# Altium footprint library UHF-pcblib.PcbLib: 7 footprints
Each footprint in its own frame and in the unit in brackets; x right, y up, seen from the top. Pads: shape width x height; smd on the part's side, far side on the other; paste and mask are expansions set on the pad; w line width, h text height; cw(c..) or ccw(c..) is an arc to the next point about the centre after c.
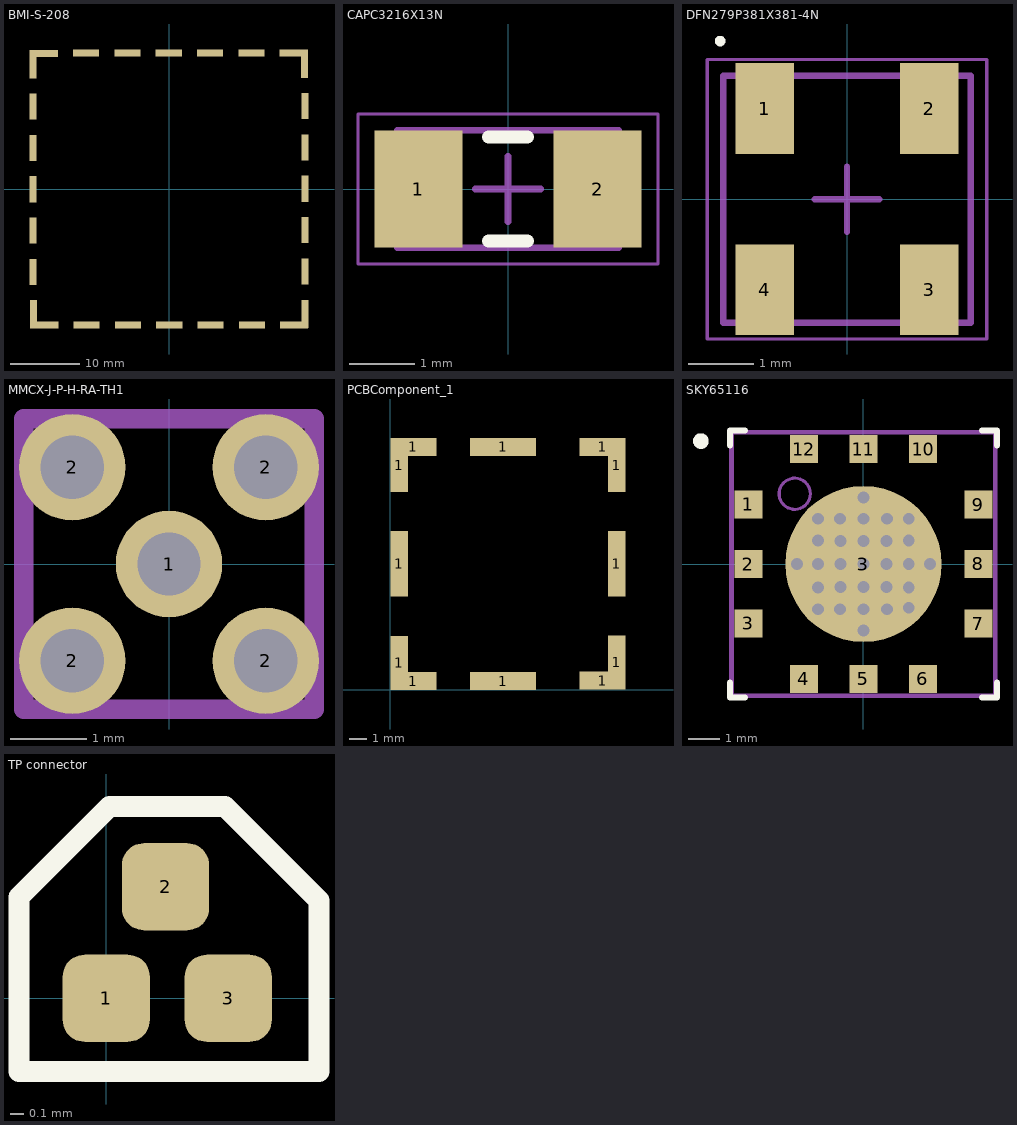
[diagram p0: the footprints below, top view; thin cyan lines are the x and y axes]

## BMI-S-208 [mm]
pads (28):
  rect 1x3.8 smd: 1(-19.775,-12) 1(-19.775,-6) 1(-19.775,0) 1(-19.775,6) 1(-19.775,12) 1(19.7,-11.925) 1(19.7,-5.925) 1(19.7,0.075) 1(19.7,6.075) 1(19.7,12.075)
  rect 1x4.1 smd: 1(-19.775,18.15) 1(-19.7,-18.1) 1(19.625,18.175) 1(19.7,-18.1)
  rect 4.1x1 smd: 1(-18.175,19.7) 1(-18.15,-19.7) 1(18.075,19.775) 1(18.1,-19.7)
  rect 3.8x1 smd: 1(-12.075,19.775) 1(-12,-19.7) 1(-6.075,19.775) 1(-6,-19.7) 1(-0.075,19.775) 1(0,-19.7) 1(5.925,19.775) 1(6,-19.7) 1(11.925,19.775) 1(12,-19.7)
3D body: height 7, standoff 5.5, extent -20.1,-20.1 20.1,20.1
3D body: height 7, standoff 0, extent -20.1,-20.1 20.1,-18
3D body: height 7, standoff 0, extent 18,-20.1 20.1,20.1
3D body: height 7, standoff 0, extent -20.1,18 20.1,20.1
3D body: height 7, standoff 0, extent -20.1,-20.1 -18,20.1

## CAPC3216X13N [mm] "Chip Capacitor, 2-Leads, Body 3.20x1.60mm, IPC Medium Density"
height 1.3
pads (2):
  rect 1.35x1.8 smd: 1(-1.375,0) 2(1.375,0)
Top Overlay:
  lines w0.2: -0.3,-0.8 0.3,-0.8 ; -0.3,0.8 0.3,0.8
Mechanical 13:
  lines w0.1: -1.7,-0.9 1.7,-0.9 1.7,0.9 -1.7,0.9 -1.7,-0.9
Mechanical 15:
  lines w0.05: -2.3,-1.15 2.3,-1.15 2.3,1.15 -2.3,1.15 -2.3,-1.15
  lines w0.1: -0.5,0 0.5,0 ; 0,-0.5 0,0.5
3D body: height 1.3, standoff 0, extent 1.2,-0.9 1.7,0.9
3D body: height 1.3, standoff 0, extent -1.7,-0.9 -1.2,0.9
3D body: height 1.3, standoff 0, extent -1.2,-0.9 1.2,0.9

## DFN279P381X381-4N [mm] "DFN, 4-Leads, Body 3.81x3.81mm, Pitch 2.79mm, IPC Medium Density"
height 3.81
pads (4):
  rect 0.9x1.4 smd: 1(-1.27,1.397) 2(1.27,1.397) 3(1.27,-1.397) 4(-1.27,-1.397)
Top Overlay:
  circle w0.1: c-1.956,2.438 r0.032
Mechanical 13:
  lines w0.1: -1.905,-1.905 -1.905,1.905 1.905,1.905 1.905,-1.905 -1.905,-1.905
Mechanical 15:
  lines w0.05: -2.155,-2.155 -2.155,2.155 2.155,2.155 2.155,-2.155 -2.155,-2.155
  lines w0.1: -0.5,0 0.5,0 ; 0,-0.5 0,0.5
3D body: height 3.81, standoff 0, extent -1.905,-1.905 1.905,1.905

## MMCX-J-P-H-RA-TH1 [mil]
pads (5):
  round 55 hole 32.68: 1(0,0) 2(-50,-50) 2(-50,50) 2(50,-50) 2(50,50)
Mechanical 1:
  lines w10: -75,-75 -75,75 75,75 75,-75 -75,-75
3D body "MMCX-J-P-H-RA-TH1.stp": height 151.57, standoff -116.14, extent -68.9,-68.9 68.9,187.01

## PCBComponent_1 [mil]
pads (12):
  rect 40x122 smd: 1(20,61) 1(20,508) 1(512,62) 1(512,508)
  rect 40x149 smd: 1(20,285) 1(512,285)
  rect 104x40 smd: 1(52,20) 1(52,549) 1(480,21) 1(480,549)
  rect 149x40 smd: 1(255,20) 1(255,549)

## SKY65116 [mm]
pads (13):
  rect 0.9x0.9 smd mask+0.076: 1(-3.683,1.91) 2(-3.683,0) 3(-3.683,-1.905) 4(-1.91,-3.683) 5(0,-3.683) 6(1.905,-3.683) 7(3.683,-1.91) 8(3.683,0) 9(3.683,1.905) 10(1.91,3.683) 11(0,3.683) 12(-1.905,3.683)
  round 5 smd: 3(0,0)
via 0,0 diameter 0.635 hole 0.381
via 0.737,0 diameter 0.635 hole 0.381
via 0,-0.737 diameter 0.635 hole 0.381
via 0.737,-0.737 diameter 0.635 hole 0.381
via 0.737,0.737 diameter 0.635 hole 0.381
via 0,0.737 diameter 0.635 hole 0.381
via -0.737,0.737 diameter 0.635 hole 0.381
via -0.737,0 diameter 0.635 hole 0.381
via -0.737,-0.737 diameter 0.635 hole 0.381
via -0.75,1.45 diameter 0.635 hole 0.381
via 0,1.45 diameter 0.635 hole 0.381
via 0.75,1.45 diameter 0.635 hole 0.381
via -1.45,0.75 diameter 0.635 hole 0.381
via -1.45,0 diameter 0.635 hole 0.381
via -1.45,-0.75 diameter 0.635 hole 0.381
via -0.75,-1.45 diameter 0.635 hole 0.381
via 0,-1.45 diameter 0.635 hole 0.381
via 0.75,-1.45 diameter 0.635 hole 0.381
via 1.45,-0.75 diameter 0.635 hole 0.381
via 1.45,0 diameter 0.635 hole 0.381
via 1.45,0.75 diameter 0.635 hole 0.381
via -1.45,-1.45 diameter 0.635 hole 0.381
via -1.45,1.45 diameter 0.635 hole 0.381
via 1.45,1.45 diameter 0.635 hole 0.381
via 1.45,-1.4 diameter 0.635 hole 0.381
via -2.134,0 diameter 0.635 hole 0.381
via 0,-2.134 diameter 0.635 hole 0.381
via 2.134,0 diameter 0.635 hole 0.381
via 0,2.134 diameter 0.635 hole 0.381
Top Overlay:
  circle w0.25: c-5.207,3.937 r0.125
  lines w0.2: -4.278,-3.803 -4.278,-4.278 -3.803,-4.278 ; -4.278,3.803 -4.278,4.278 -3.803,4.278 ; 3.803,-4.278 4.278,-4.278 4.278,-3.803 ; 3.803,4.278 4.278,4.278 4.278,3.803
Mechanical 13:
  circle w0.1: c-2.2,2.25 r0.5
  lines w0.1: -4.193,-4.193 4.193,-4.193 4.193,4.193 -4.193,4.193 -4.193,-4.193
Mechanical 15:
  lines w0.1: -0.5,0 0.5,0 ; 0,-0.5 0,0.5 ; -4.25,-4.25 4.25,-4.25 4.25,4.25 -4.25,4.25 -4.25,-4.25
3D body: height 1.45, standoff 0, extent -4.191,-4.191 4.191,4.191

## TP connector [mil]
pads (3):
  rrect50% 25x25 smd: 1(0,0) 2(17,32) 3(35,0)
Top Overlay:
  lines w6: -25,-21 61,-21 61,28 34,55 1,55 -25,29 -25,0.59 -25,-21